# EAGLE library part MUN24AD03-SM (library jack_IC)
8-34v in 5-12v out 3A non-isolated DC-DC converter (datasheet) <http://www.cyntec.com/upfile/products/download/Cyntec_MUN24AD03-SM_datasheet_Rev.pdf>
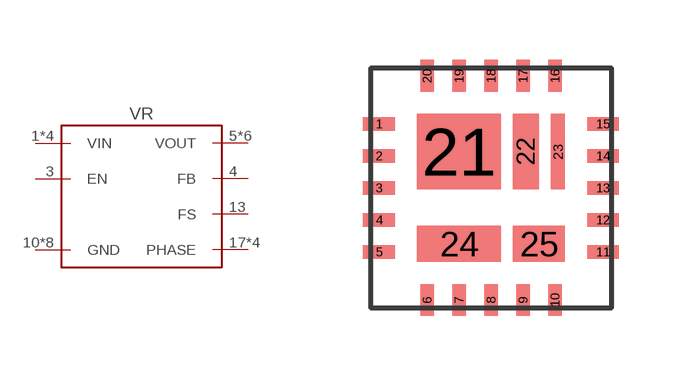
[diagram p20: symbol with the pads of UPOL_PWR_MODULE; footprint UPOL_PWR_MODULE]

Designator prefix VR

## MUN24AD03-SM  [UPOL_PWR_MODULE]
1  VIN
2  VIN
3  EN
4  FB
5  VOUT
6  VOUT
7  VOUT
8  VOUT
9  VOUT
10  GND
11  GND
12  GND
13  FS
14  GND
15  GND
16  GND
17  PHASE
18  PHASE
19  PHASE
20  VIN
21  VIN
22  PHASE
23  GND
24  VOUT
25  GND

## Footprint UPOL_PWR_MODULE (pad centres in mm)
smd 0.8 x 0.33: 1 -2.8,1.6; 2 -2.8,0.8; 3 -2.8,0; 4 -2.8,-0.8; 5 -2.8,-1.6; 11 2.8,-1.6; 12 2.8,-0.8; 13 2.8,0; 14 2.8,0.8; 15 2.8,1.6
smd 0.33 x 0.8: 6 -1.6,-2.8; 7 -0.8,-2.8; 8 0,-2.8; 9 0.8,-2.8; 10 1.6,-2.8; 16 1.6,2.8; 17 0.8,2.8; 18 0,2.8; 19 -0.8,2.8; 20 -1.6,2.8
smd 2.1 x 1.88: 21 -0.8,0.91
smd 0.65 x 1.88: 22 0.865,0.91
smd 0.36 x 1.88: 23 1.67,0.91
smd 2.1 x 0.9: 24 -0.8,-1.4
smd 1.3 x 0.9: 25 1.2,-1.4